# Altium footprint library G6K-2F-Y.PcbLib: 1 footprints
Each footprint in its own frame and in the unit in brackets; x right, y up, seen from the top. Pads: shape width x height; smd on the part's side, far side on the other; paste and mask are expansions set on the pad; w line width, h text height; cw(c..) or ccw(c..) is an arc to the next point about the centre after c.
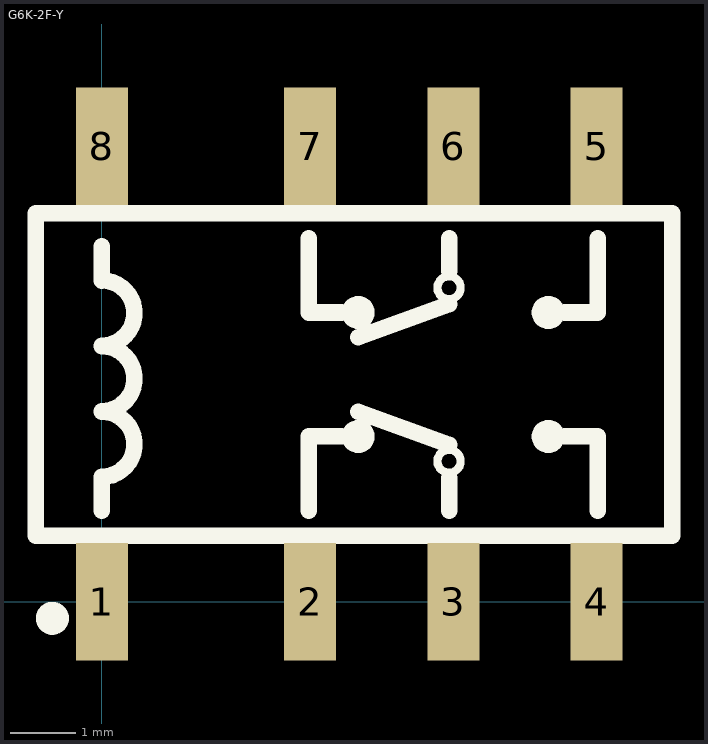
[diagram p0: the footprint, top view; thin cyan lines are the x and y axes]

## G6K-2F-Y [mm] "G6K-2F-Y"
pads (8):
  rect 0.8x1.8 smd: 1(0,0) 2(3.2,0) 3(5.4,0) 4(7.6,0) 5(7.6,7) 6(5.4,7) 7(3.2,7) 8(0,7)
Top Overlay:
  circle w0.127: c5.334,2.159 r0.178
  circle w0.127: c5.334,4.826 r0.178
  circle w0.254: c6.858,2.54 r0.127
  circle w0.254: c6.858,4.445 r0.127
  circle w0.254: c3.937,4.445 r0.127
  circle w0.254: c3.937,2.54 r0.127
  circle w0.254: c-0.762,-0.254 r0.127
  lines w0.254: 0,1.397 0,1.905 ; 0,1.921 ccw(c0,2.421) 0,2.921 ; 0,2.929 ccw(c0,3.429) 0,3.929 ; 0,3.937 ccw(c0,4.437) 0,4.937 ; 0,4.953 0,5.461 ; 3.175,1.397 3.175,2.54 3.683,2.54 ; 3.175,5.588 3.175,4.445 3.683,4.445 ; 3.937,2.921 5.334,2.413 ; 3.937,4.064 5.334,4.572 ; 5.334,1.397 5.334,1.905 ; 5.334,5.08 5.334,5.588 ; 7.112,2.54 7.62,2.54 7.62,1.397 ; 7.112,4.445 7.62,4.445 7.62,5.588 ; -1.016,1.016 8.763,1.016 8.763,5.969 -1.016,5.969 -1.016,1.016